# EAGLE library part L293 (library IC_Power-Management)
L293D H-bridge motor driver Datasheet <https://www.ti.com/lit/ds/symlink/l293.pdf>
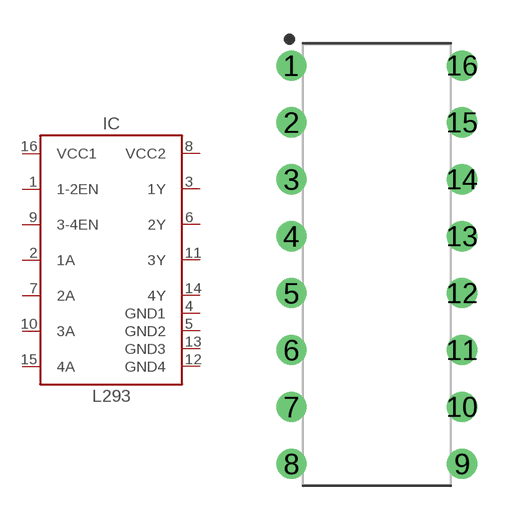
[diagram p16: symbol with the pads of DIP762W53P254L1969H508Q16B; footprint DIP762W53P254L1969H508Q16B]

Designator prefix IC

## L293 (CATEGORY: IC_Linear; DESCRIPTION: Bipolar Motor Driver; MANUFACTURER: Generic; MPN: Generic; SERIES: L293; SUB-CATEGORY: Motor Driver; TYPE: Bipolar; VALUE: L293), L293B (CATEGORY: IC_Linear; DESCRIPTION: IC MTR DRV BIPOLAR 4.5-36V 16DIP; MANUFACTURER: STMicroelectronics; MPN: L293B; OPERATING_TEMP: -40°C ~ 150°C; PART_STATUS: Active; ROHS_COMPLIANT: ROHS3 Compliant; SERIES: L293; SUB-CATEGORY: Motor Driver; TYPE: Bipolar; VALUE: L293), L293D (CATEGORY: IC_Linear; DESCRIPTION: IC MTRDRV BIPLR 4.5-36V 16PWRDIP; MANUFACTURER: STMicroelectronics; MPN: L293D; OPERATING_TEMP: -40°C ~ 150°C; PART_STATUS: Active; ROHS_COMPLIANT: ROHS3 Compliant; SERIES: L293; SUB-CATEGORY: Motor Driver; TYPE: Bipolar; VALUE: L293)  [DIP762W53P254L1969H508Q16B]
1  1-2EN  in
2  1A  in
3  1Y  out
4  GND1  pas
5  GND2  pas
6  2Y  out
7  2A  in
8  VCC2  pas
9  3-4EN  in
10  3A  in
11  3Y  out
12  GND4  pas
13  GND3  pas
14  4Y  out
15  4A  in
16  VCC1  pas

## Footprint DIP762W53P254L1969H508Q16B (pad centres in mm)
16-DIP, 2.54 mm (0.10 in) pitch, 7.62 mm (0.30 in) span, 19.69 X 6.6 X 5.08 mm body 16-pin DIP package with 2.54 mm (0.10 in) pitch, 7.62 mm (0.30 in) span with body size 19.69 X 6.6 X 5.08 mm
drill 0.743 pad 1.343: 1 -3.81,8.89; 2 -3.81,6.35; 3 -3.81,3.81; 4 -3.81,1.27; 5 -3.81,-1.27; 6 -3.81,-3.81; 7 -3.81,-6.35; 8 -3.81,-8.89; 9 3.81,-8.89; 10 3.81,-6.35; 11 3.81,-3.81; 12 3.81,-1.27; 13 3.81,1.27; 14 3.81,3.81; 15 3.81,6.35; 16 3.81,8.89